# EAGLE library part ST1S10 (library X893)
3 A, 900 kHz, monolithic synchronous step-down regulator http://www.terraelectronica.ru/pdf/ST/ST1S10.pdf
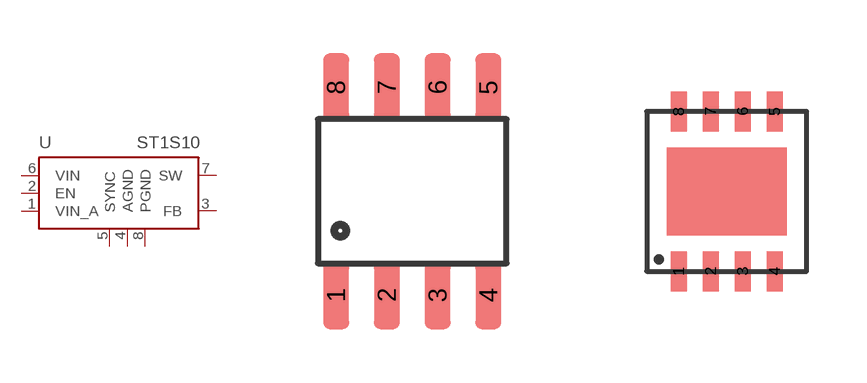
[diagram p21: symbol with the pads of SO08; footprints SO08, DFN8]

Designator prefix U

## ST1S10-SO8  [SO08]
1  VIN_A  pas
2  EN  pas
3  FB  pas
4  AGND  pas
5  SYNC  pas
6  VIN  pas
7  SW  pas
8  PGND  sup

## ST1S10-DFN8  [DFN8]
Pads as for SO08

## ST1S10-SO8PAD  [SO08-EPAD]
Pads as for SO08

## Footprint SO08 (pad centres in mm)
Small Outline Package Fits JEDEC packages (narrow SOIC-8)
smd 0.65 x 1.7: 1 -1.905,-2.6; 2 -0.635,-2.6; 3 0.635,-2.6; 4 1.905,-2.6; 5 1.905,2.6; 6 0.635,2.6; 7 -0.635,2.6; 8 -1.905,2.6

## Footprint DFN8 (pad centres in mm)
smd 0.4 x 1: 1 -1.2,-2; 2 -0.4,-2; 3 0.4,-2; 4 1.2,-2; 5 1.2,2; 6 0.4,2; 7 -0.4,2; 8 -1.2,2

## Footprint SO08-EPAD (pad centres in mm)
Small Outline Package Fits JEDEC packages (narrow SOIC-8)
smd 0.6 x 2: 1 -1.905,-2.616; 2 -0.635,-2.616; 3 0.635,-2.616; 4 1.905,-2.616; 5 1.905,2.616; 6 0.635,2.616; 7 -0.635,2.616
smd 0.61 x 2: 8 -1.905,2.616
smd 3 x 2: EPAD 0,0